# EAGLE library part WS2812B (library ws2812b)
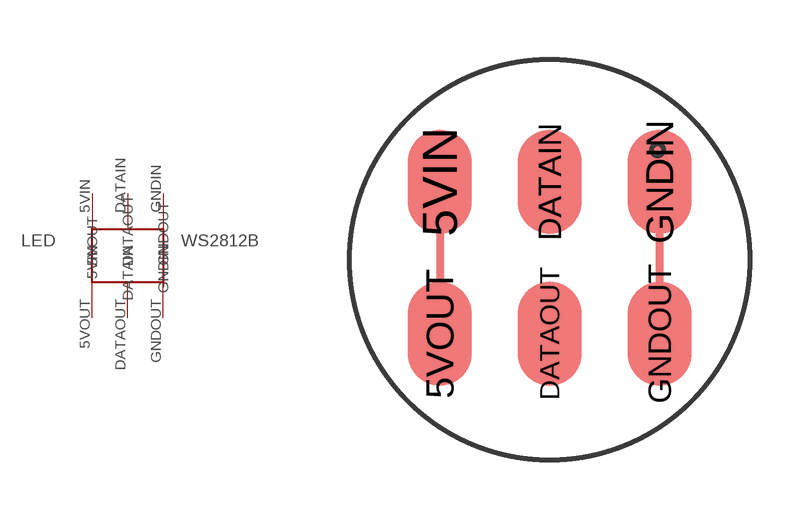
[diagram p0: symbol with the pads of ROUND; footprint ROUND]

Designator prefix LED

## WS2812B  [ROUND]
5VIN  5VIN  in
5VOUT  5VOUT  out
DATAIN  DATAIN  in
DATAOUT  DATAOUT  out
GNDIN  GNDIN  in
GNDOUT  GNDOUT  out

## Footprint ROUND (pad centres in mm)
smd 1.6 x 2.6: 5VIN -2.75,1.95; 5VOUT -2.75,-1.85; DATAIN 0,1.95; DATAOUT 0,-1.85; GNDIN 2.75,1.95; GNDOUT 2.75,-1.85